# Altium footprint library KT940.PcbLib: 1 footprints
Each footprint in its own frame and in the unit in brackets; x right, y up, seen from the top. Pads: shape width x height; smd on the part's side, far side on the other; paste and mask are expansions set on the pad; w line width, h text height; cw(c..) or ccw(c..) is an arc to the next point about the centre after c.
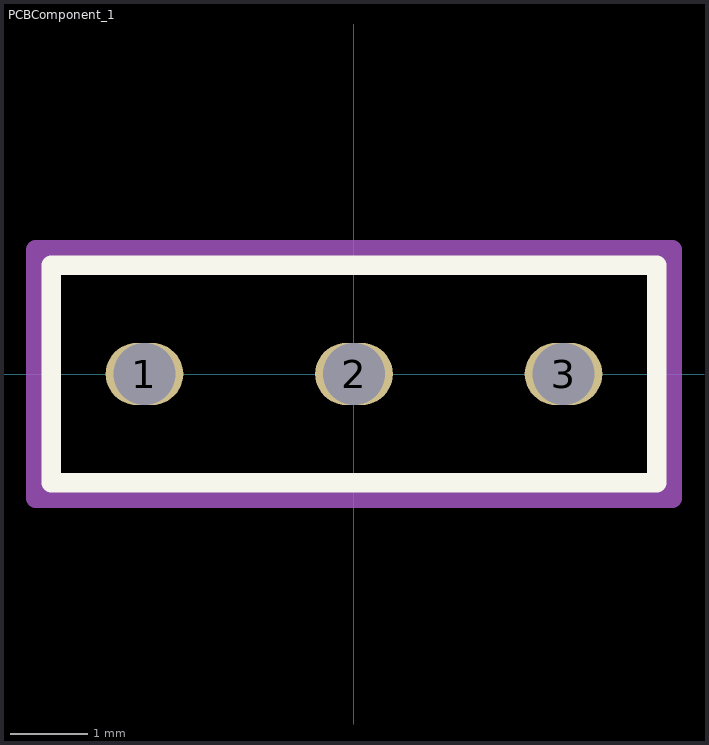
[diagram p0: the footprint, top view; thin cyan lines are the x and y axes]

## PCBComponent_1 [mm]
pads (3):
  oval 1x0.8 hole 0.8: 1(-2.7,0) 2(0,0) 3(2.7,0)
Top Overlay:
  lines w0.254: -3.9,-1.4 3.9,-1.4 3.9,1.4 -3.9,1.4 -3.9,-1.4
Mechanical 1:
  lines w0.254: -4.1,-1.6 4.1,-1.6 4.1,1.6 -4.1,1.6 -4.1,-1.6